# Altium schematic symbol library ADS1115LIDGSR.SchLib: 1 symbol
Pins are listed as number, name and electrical type; pins without a type are passive.

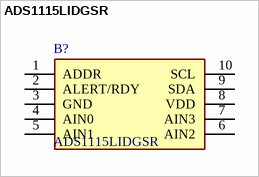
[diagram p0: symbol ADS1115LIDGSR]

## ADS1115LIDGSR
designator B?
Analog to Digital Converters - ADC 16-bit, 860-SPS four-channel delta-sigma ADC with PGA, comparator and 1.8-V IC bus voltage support 10-VSSOP -40 to 125; Manufacturer_Name: Texas Instruments; Geometry.Height: 1.1mm; Manufacturer_Part_Number: ADS1115LIDGSR; Mouser Part Number: 595-ADS1115LIDGSR; Mouser Price/Stock: https://www.mouser.co.uk/ProductDetail/Texas-Instruments/ADS1115LIDGSR?qs=mELouGlnn3cukRGa5QBtug%3D%3D; Arrow Part Number: ADS1115LIDGSR; Arrow Price/Stock: https://www.arrow.com/en/products/ads1115lidgsr/texas-instruments?utm_currency=USD&region=nac; Datasheet Link: https://www.ti.com/lit/ds/symlink/ads1115l.pdf?ts=1719994580469&ref_url=https%253A%252F%252Fwww.ti.com%252Fsitesearch%252Fen-us%252Fdocs%252Funiversalsearch.tsp%253FlangPref%253Den-US
footprint SOP50P490X110-10N
pins: 1 ADDR, 2 ALERT/RDY, 3 GND, 4 AIN0, 5 AIN1, 6 AIN2, 7 AIN3, 8 VDD, 9 SDA, 10 SCL